# Altium footprint library WURTH_7443762504022.PcbLib: 1 footprints
Each footprint in its own frame and in the unit in brackets; x right, y up, seen from the top. Pads: shape width x height; smd on the part's side, far side on the other; paste and mask are expansions set on the pad; w line width, h text height; cw(c..) or ccw(c..) is an arc to the next point about the centre after c.
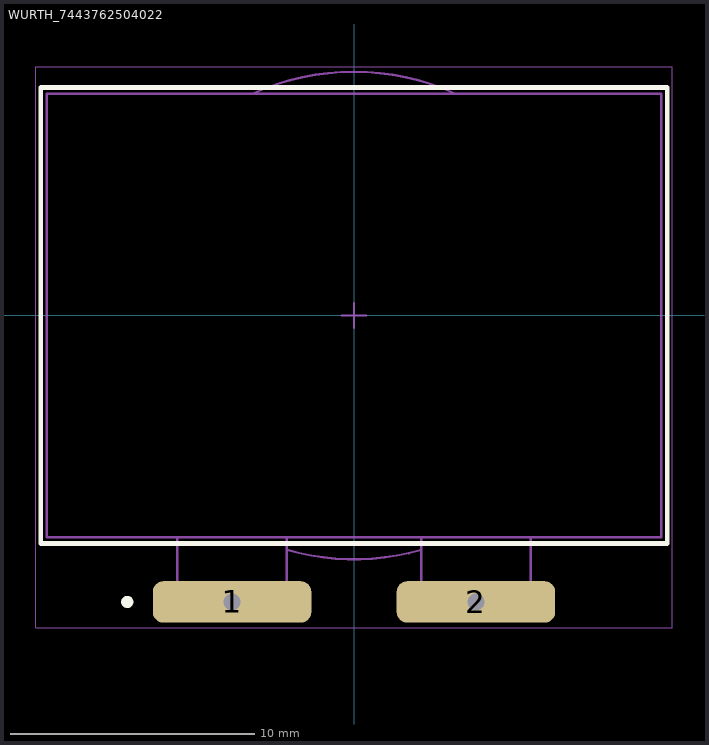
[diagram p0: the footprint, top view; thin cyan lines are the x and y axes]

## WURTH_7443762504022 [mm]
height 4.1
pads (2):
  rrect50% 6.5x1.7 hole 0.7 square: 1(-5,-11.75) 2(5,-11.75)
Top Overlay:
  circle w0.25: c-9.3,-11.75 r0.125
  lines w0.2: -12.85,-9.35 12.85,-9.35 12.85,9.35 -12.85,9.35 -12.85,-9.35
Mechanical 13:
  lines w0.1: -7.25,-9.1 -7.25,-12 -2.75,-12 -2.75,-9.1 ; -4.142,9.102 cw(c0,0) 4.142,9.102 ; -2.746,-9.616 ccw(c0,0) 2.742,-9.617 ; 2.75,-9.1 2.75,-12 7.25,-12 7.25,-9.1 ; -12.6,-9.1 12.6,-9.1 12.6,9.1 -12.6,9.1 -12.6,-9.1
Mechanical 15:
  lines w0.05: -13.05,-12.8 -13.05,10.2 13.05,10.2 13.05,-12.8 -13.05,-12.8
  lines w0.1: -0.5,0 0.5,0 ; 0,-0.5 0,0.5
3D body "7443762504022.stp": height 4.15, standoff -3.45, extent -12.6,-12 12.6,10